# Altium integrated library NSC Logic Switch.IntLib: 48 symbols
Pins are listed as number, name and electrical type; pins without a type are passive.

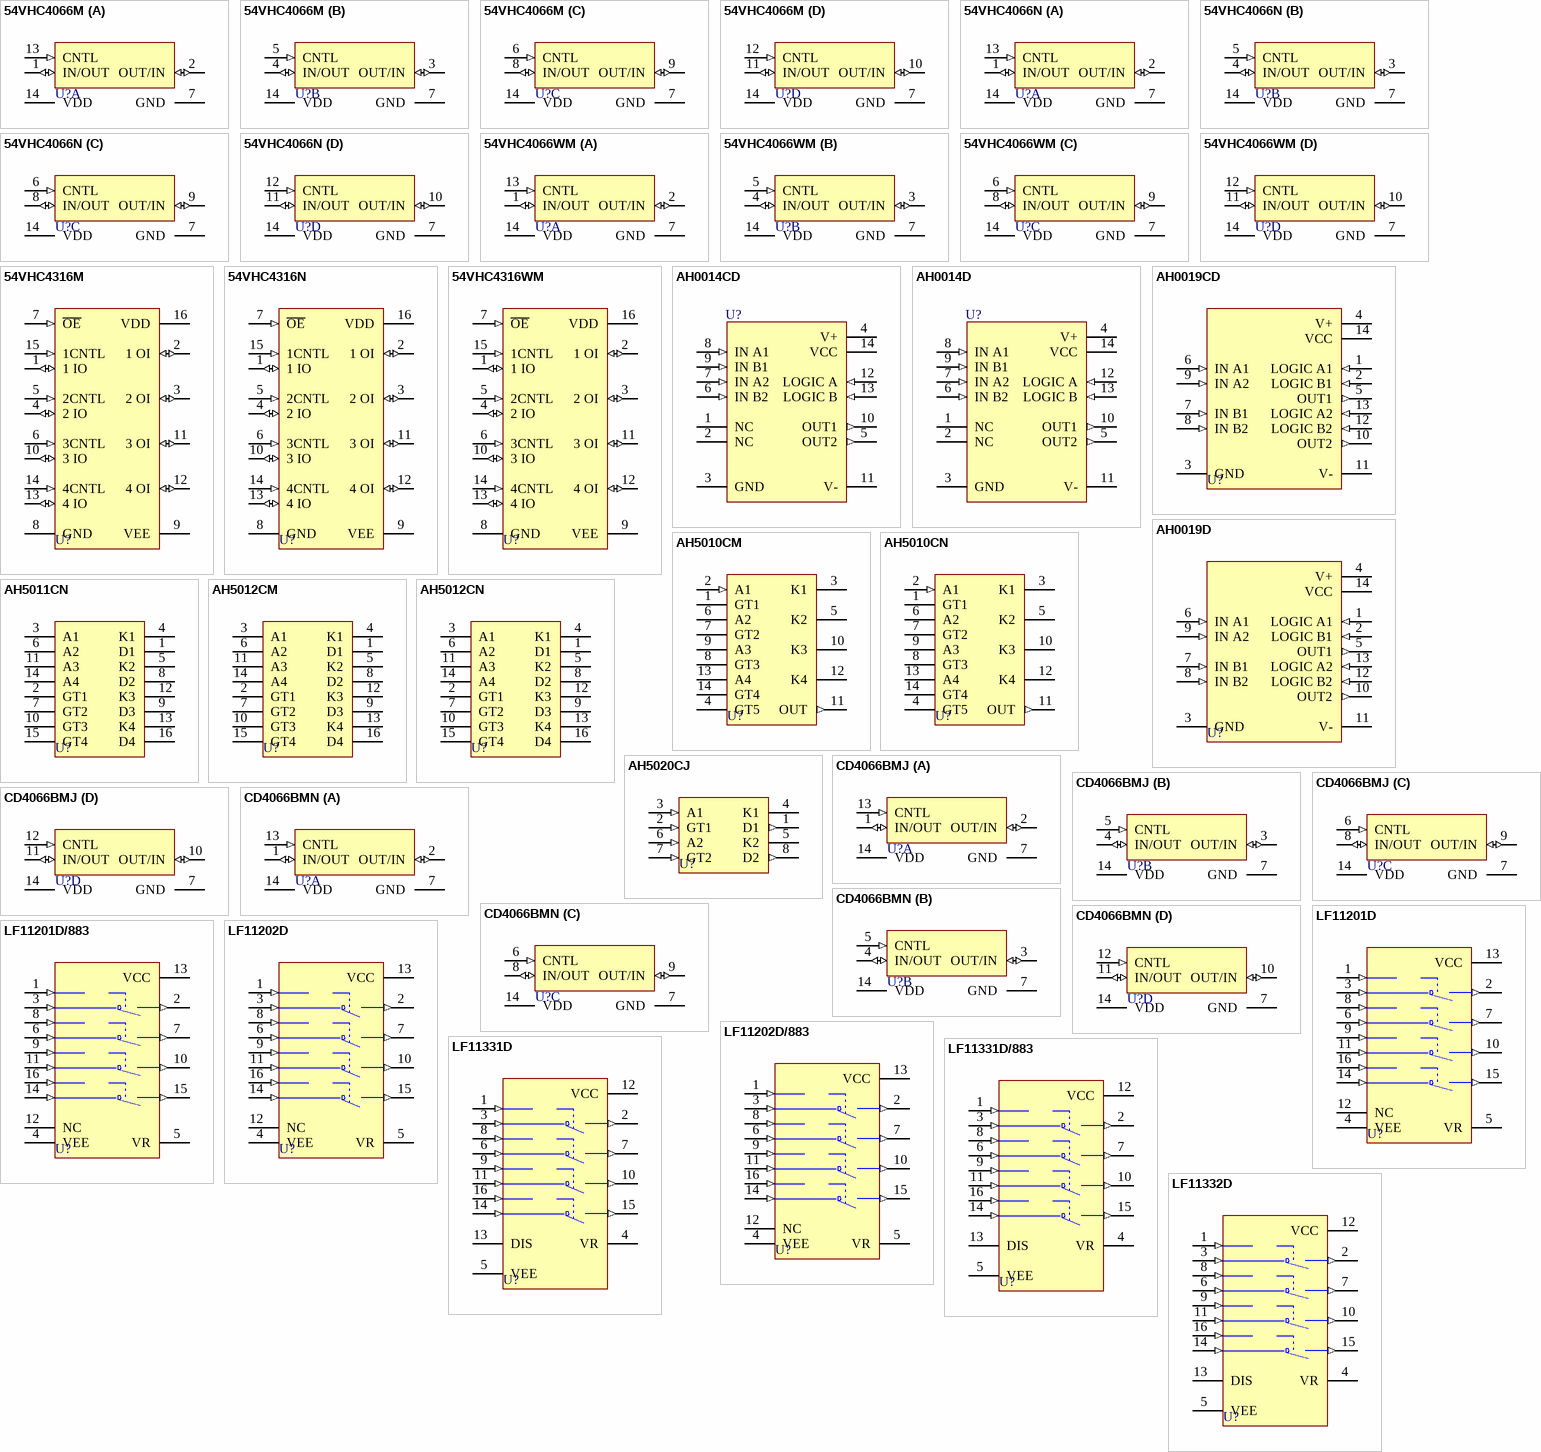
[diagram p0: symbols 54VHC4066M to LF11332D]

## 54VHC4066M
designator U?
Quad Analog Switch; Published: 15-Apr-2002; LatestRevisionDate: 13-Apr-2006; LatestRevisionNote: IPC-7351 Footprint Added.; DatasheetVersion: May-1994; PackageVersion: 2000; PackageReference: M14A; Publisher: Altium Limited; PackageDescription: 14-Pin Small Outline Integrated Circuit 1.27 mm Pitch; Code_IPC: SOIC127P600-14; ComponentLink1Description: Manufacturer Link; ComponentLink1URL: http://www.national.com/
footprint M14A_N (SOIC, 14-Leads, Body 8.6x3.9mm, Pitch 1.27mm, IPC Medium Density)
footprint M14A_L (SOIC, 14-Leads, Body 8.6x3.9mm, Pitch 1.27mm, IPC High Density)
footprint M14A_M (SOIC, 14-Leads, Body 8.6x3.9mm, Pitch 1.27mm, IPC Low Density)
3D model M14A (14-Pin Small Outline Integrated Circuit 1.27 mm Pitch)
pins on every part: 7 GND (power) hidden to GND, 14 VDD (power) hidden to VDD
part A pins: 1 IN/OUT (io), 2 OUT/IN (io), 13 CNTL (in)
part B pins: 3 OUT/IN (io), 4 IN/OUT (io), 5 CNTL (in)
part C pins: 6 CNTL (in), 8 IN/OUT (io), 9 OUT/IN (io)
part D pins: 10 OUT/IN (io), 11 IN/OUT (io), 12 CNTL (in)

## 54VHC4066N
designator U?
Quad Analog Switch; Published: 15-Apr-2002; LatestRevisionDate: 06-Jun-2005; LatestRevisionNote: Stylized 3D Model Added.; DatasheetVersion: May-1994; PackageVersion: 2000; PackageReference: N14A; Publisher: Altium Limited; PackageDescription: DIP; 14 Leads; Row Spacing 7.62 mm; Pitch 2.54 mm; ComponentLink1Description: Manufacturer Link; ComponentLink1URL: http://www.national.com/
footprint N14A (DIP; 14 Leads; Row Spacing 7.62 mm; Pitch 2.54 mm)
3D model N14A (DIP; 14 Leads; Row Spacing 7.62 mm; Pitch 2.54 mm)
pins on every part: 7 GND (power) hidden to GND, 14 VDD (power) hidden to VDD
part A pins: 1 IN/OUT (io), 2 OUT/IN (io), 13 CNTL (in)
part B pins: 3 OUT/IN (io), 4 IN/OUT (io), 5 CNTL (in)
part C pins: 6 CNTL (in), 8 IN/OUT (io), 9 OUT/IN (io)
part D pins: 10 OUT/IN (io), 11 IN/OUT (io), 12 CNTL (in)

## 54VHC4066WM
designator U?
Quad Analog Switch; Published: 15-Apr-2002; LatestRevisionDate: 13-Apr-2006; LatestRevisionNote: IPC-7351 Footprint Added.; DatasheetVersion: May-1994; PackageVersion: 2000; PackageReference: M14B; Publisher: Altium Limited; PackageDescription: 14-Pin Small Outline Integrated Circuit 1.27 mm Pitch; Code_JEDEC: MS-013-AF; Code_IPC: SOIC127P1030-14; ComponentLink1Description: Manufacturer Link; ComponentLink1URL: http://www.national.com/
footprint M14B_N (SOIC, 14-Leads, Body 9x7.5mm, Pitch 1.27mm, IPC Medium Density)
footprint M14B_L (SOIC, 14-Leads, Body 9x7.5mm, Pitch 1.27mm, IPC High Density)
footprint M14B_M (SOIC, 14-Leads, Body 9x7.5mm, Pitch 1.27mm, IPC Low Density)
3D model M14B (14-Pin Small Outline Integrated Circuit 1.27 mm Pitch)
pins on every part: 7 GND (power) hidden to GND, 14 VDD (power) hidden to VDD
part A pins: 1 IN/OUT (io), 2 OUT/IN (io), 13 CNTL (in)
part B pins: 3 OUT/IN (io), 4 IN/OUT (io), 5 CNTL (in)
part C pins: 6 CNTL (in), 8 IN/OUT (io), 9 OUT/IN (io)
part D pins: 10 OUT/IN (io), 11 IN/OUT (io), 12 CNTL (in)

## 54VHC4316M
designator U?
Quad Analog Switch with Level Translator; Published: 15-Apr-2002; LatestRevisionDate: 13-Apr-2006; LatestRevisionNote: IPC-7351 Footprint Added.; DatasheetVersion: Jun-1994; PackageVersion: 2000; PackageReference: M16A; Publisher: Altium Limited; PackageDescription: 16-Pin Small Outline Integrated Circuit 1.27 mm Pitch; Code_IPC: SOIC127P600-16; ComponentLink1Description: Manufacturer Link; ComponentLink1URL: http://www.national.com/
footprint M16A_N (SOIC, 16-Leads, Body 9.9x3.9mm, Pitch 1.27mm, IPC Medium Density)
footprint M16A_L (SOIC, 16-Leads, Body 9.9x3.9mm, Pitch 1.27mm, IPC High Density)
footprint M16A_M (SOIC, 16-Leads, Body 9.9x3.9mm, Pitch 1.27mm, IPC Low Density)
3D model M16A (16-Pin Small Outline Integrated Circuit 1.27 mm Pitch)
pins: 1 1 IO (io), 2 1 OI (io), 3 2 OI (io), 4 2 IO (io), 5 2CNTL (in), 6 3CNTL (in), 7 ~{OE} (in), 8 GND (power), 9 VEE (power), 10 3 IO (io), 11 3 OI (io), 12 4 OI (io), 13 4 IO (io), 14 4CNTL (in), 15 1CNTL (in), 16 VDD (power)

## 54VHC4316N
designator U?
Quad Analog Switch with Level Translator; Published: 15-Apr-2002; LatestRevisionDate: 06-Jun-2005; LatestRevisionNote: Stylized 3D Model Added.; DatasheetVersion: Jun-1994; PackageVersion: 2000; PackageReference: N16E; Publisher: Altium Limited; PackageDescription: DIP; 16 Leads; Row Spacing 7.62 mm; Pitch 2.54 mm; ComponentLink1Description: Manufacturer Link; ComponentLink1URL: http://www.national.com/
footprint N16E (DIP; 16 Leads; Row Spacing 7.62 mm; Pitch 2.54 mm)
3D model D16C (DIP; 16 Leads; Row Spacing 7.62 mm; Pitch 2.54 mm)
pins: 1 1 IO (io), 2 1 OI (io), 3 2 OI (io), 4 2 IO (io), 5 2CNTL (in), 6 3CNTL (in), 7 ~{OE} (in), 8 GND (power), 9 VEE (power), 10 3 IO (io), 11 3 OI (io), 12 4 OI (io), 13 4 IO (io), 14 4CNTL (in), 15 1CNTL (in), 16 VDD (power)

## 54VHC4316WM
designator U?
Quad Analog Switch with Level Translator; Published: 15-Apr-2002; LatestRevisionDate: 13-Apr-2006; LatestRevisionNote: IPC-7351 Footprint Added.; DatasheetVersion: Jun-1994; PackageVersion: 2000; PackageReference: M16B; Publisher: Altium Limited; PackageDescription: 16-Pin Small Outline Integrated Circuit 1.27 mm Pitch; Code_JEDEC: MS-013-AA; Code_IPC: SOIC127P1030-16; ComponentLink1Description: Manufacturer Link; ComponentLink1URL: http://www.national.com/
footprint M16B_N (SOIC, 16-Leads, Body 10.3x7.5mm, Pitch 1.27mm, IPC Medium Density)
footprint M16B_L (SOIC, 16-Leads, Body 10.3x7.5mm, Pitch 1.27mm, IPC High Density)
footprint M16B_M (SOIC, 16-Leads, Body 10.3x7.5mm, Pitch 1.27mm, IPC Low Density)
3D model M16B (16-Pin Small Outline Integrated Circuit 1.27 mm Pitch)
pins: 1 1 IO (io), 2 1 OI (io), 3 2 OI (io), 4 2 IO (io), 5 2CNTL (in), 6 3CNTL (in), 7 ~{OE} (in), 8 GND (power), 9 VEE (power), 10 3 IO (io), 11 3 OI (io), 12 4 OI (io), 13 4 IO (io), 14 4CNTL (in), 15 1CNTL (in), 16 VDD (power)

## AH0014CD
designator U?
Quad SPST-TTL/DTL Compatible MOS Analog Switches; Published: 15-Apr-2002; LatestRevisionDate: 06-Jun-2005; LatestRevisionNote: Stylized 3D Model Added.; DatasheetVersion: Feb-1995; PackageReference: D14D; Publisher: Altium Limited; PackageDescription: DIP; 14 Leads; Row Spacing 7.62 mm; Pitch 2.54 mm; ComponentLink1Description: Manufacturer Link; ComponentLink1URL: http://www.national.com/
footprint D14D (DIP; 14 Leads; Row Spacing 7.62 mm; Pitch 2.54 mm)
3D model D14D (DIP; 14 Leads; Row Spacing 7.62 mm; Pitch 2.54 mm)
pins: 1 NC, 2 NC, 3 GND (power), 4 V+ (power), 5 OUT2 (out), 6 IN B2 (in), 7 IN A2 (in), 8 IN A1 (in), 9 IN B1 (in), 10 OUT1 (out), 11 V- (power), 12 LOGIC A (in), 13 LOGIC B (in), 14 VCC (power)

## AH0014D
designator U?
Quad SPST-TTL/DTL Compatible MOS Analog Switches; Published: 15-Apr-2002; LatestRevisionDate: 06-Jun-2005; LatestRevisionNote: Stylized 3D Model Added.; DatasheetVersion: Feb-1995; PackageReference: D14D; Publisher: Altium Limited; PackageDescription: DIP; 14 Leads; Row Spacing 7.62 mm; Pitch 2.54 mm; ComponentLink1Description: Manufacturer Link; ComponentLink1URL: http://www.national.com/
footprint D14D (DIP; 14 Leads; Row Spacing 7.62 mm; Pitch 2.54 mm)
3D model D14D (DIP; 14 Leads; Row Spacing 7.62 mm; Pitch 2.54 mm)
pins: 1 NC, 2 NC, 3 GND (power), 4 V+ (power), 5 OUT2 (out), 6 IN B2 (in), 7 IN A2 (in), 8 IN A1 (in), 9 IN B1 (in), 10 OUT1 (out), 11 V- (power), 12 LOGIC A (in), 13 LOGIC B (in), 14 VCC (power)

## AH0019CD
designator U?
Dual DPST-TTL/DTL Compatible MOS Analog Switches; Published: 15-Apr-2002; LatestRevisionDate: 06-Jun-2005; LatestRevisionNote: Stylized 3D Model Added.; DatasheetVersion: Feb-1995; PackageReference: D14D; Publisher: Altium Limited; PackageDescription: DIP; 14 Leads; Row Spacing 7.62 mm; Pitch 2.54 mm; ComponentLink1Description: Manufacturer Link; ComponentLink1URL: http://www.national.com/
footprint D14D (DIP; 14 Leads; Row Spacing 7.62 mm; Pitch 2.54 mm)
3D model D14D (DIP; 14 Leads; Row Spacing 7.62 mm; Pitch 2.54 mm)
pins: 1 LOGIC A1 (in), 2 LOGIC B1 (in), 3 GND (power), 4 V+ (power), 5 OUT1 (out), 6 IN A1 (in), 7 IN B1 (in), 8 IN B2 (in), 9 IN A2 (in), 10 OUT2 (out), 11 V- (power), 12 LOGIC B2 (in), 13 LOGIC A2 (in), 14 VCC (power)

## AH0019D
designator U?
Dual DPST-TTL/DTL Compatible MOS Analog Switches; Published: 15-Apr-2002; LatestRevisionDate: 06-Jun-2005; LatestRevisionNote: Stylized 3D Model Added.; DatasheetVersion: Feb-1995; PackageReference: D14D; Publisher: Altium Limited; PackageDescription: DIP; 14 Leads; Row Spacing 7.62 mm; Pitch 2.54 mm; ComponentLink1Description: Manufacturer Link; ComponentLink1URL: http://www.national.com/
footprint D14D (DIP; 14 Leads; Row Spacing 7.62 mm; Pitch 2.54 mm)
3D model D14D (DIP; 14 Leads; Row Spacing 7.62 mm; Pitch 2.54 mm)
pins: 1 LOGIC A1 (in), 2 LOGIC B1 (in), 3 GND (power), 4 V+ (power), 5 OUT1 (out), 6 IN A1 (in), 7 IN B1 (in), 8 IN B2 (in), 9 IN A2 (in), 10 OUT2 (out), 11 V- (power), 12 LOGIC B2 (in), 13 LOGIC A2 (in), 14 VCC (power)

## AH5010CM
designator U?
Monolothic Analog Current Switches; Note: All diode cathodes are internally connected to the substrate.; Published: 15-Apr-2002; LatestRevisionDate: 13-Apr-2006; LatestRevisionNote: IPC-7351 Footprint Added.; DatasheetVersion: Jan-1995; PackageVersion: 2000; PackageReference: M14A; Publisher: Altium Limited; PackageDescription: 14-Pin Small Outline Integrated Circuit 1.27 mm Pitch; Code_IPC: SOIC127P600-14; ComponentLink1Description: Manufacturer Link; ComponentLink1URL: http://www.national.com/; ComponentLink2Description: Datasheet; ComponentLink2URL: http://www.national.com/ds.cgi/AH/AH5010.pdf; ComponentLink3Description: URL Link1; ComponentLink3URL: http://www.national.com/pf/AH/AH5010.html
footprint M14A_N (SOIC, 14-Leads, Body 8.6x3.9mm, Pitch 1.27mm, IPC Medium Density)
footprint M14A_L (SOIC, 14-Leads, Body 8.6x3.9mm, Pitch 1.27mm, IPC High Density)
footprint M14A_M (SOIC, 14-Leads, Body 8.6x3.9mm, Pitch 1.27mm, IPC Low Density)
3D model M14A (14-Pin Small Outline Integrated Circuit 1.27 mm Pitch)
pins: 1 GT1, 2 A1 (in), 3 K1, 4 GT5, 5 K2, 6 A2, 7 GT2, 8 GT3, 9 A3, 10 K3, 11 OUT (out), 12 K4, 13 A4, 14 GT4

## AH5010CN
designator U?
Monolothic Analog Current Switches; Note: All diode cathodes are internally connected to the substrate.; ComponentAvailability: Obsolete; Published: 15-Apr-2002; LatestRevisionDate: 06-Jun-2005; LatestRevisionNote: Stylized 3D Model Added.; DatasheetVersion: Jan-1995; PackageVersion: 2000; PackageReference: N14A; Publisher: Altium Limited; PackageDescription: DIP; 14 Leads; Row Spacing 7.62 mm; Pitch 2.54 mm; ComponentLink1Description: Manufacturer Link; ComponentLink1URL: http://www.national.com/; ComponentLink2Description: Datasheet; ComponentLink2URL: http://www.national.com/ds.cgi/AH/AH5010.pdf; ComponentLink3Description: Discontinuation Notice; ComponentLink3URL: http://www.national.com/obs/obsolescence.txt; ComponentLink4Description: URL Link1; ComponentLink4URL: http://www.national.com/pf/AH/AH5010.html
footprint N14A (DIP; 14 Leads; Row Spacing 7.62 mm; Pitch 2.54 mm)
3D model N14A (DIP; 14 Leads; Row Spacing 7.62 mm; Pitch 2.54 mm)
pins: 1 GT1, 2 A1 (in), 3 K1, 4 GT5, 5 K2, 6 A2, 7 GT2, 8 GT3, 9 A3, 10 K3, 11 OUT (out), 12 K4, 13 A4, 14 GT4

## AH5011CN
designator U?
Monolothic Analog Current Switches; Note: All diode cathodes are internally connected to the substrate.; ComponentAvailability: Obsolete; Published: 15-Apr-2002; LatestRevisionDate: 06-Jun-2005; LatestRevisionNote: Stylized 3D Model Added.; DatasheetVersion: Jan-1995; PackageVersion: 2000; PackageReference: N16A; Publisher: Altium Limited; PackageDescription: DIP; 16 Leads; Row Spacing 7.62 mm; Pitch 2.54 mm; ComponentLink1Description: Manufacturer Link; ComponentLink1URL: http://www.national.com/; ComponentLink2Description: Datasheet; ComponentLink2URL: http://www.national.com/ds.cgi/AH/AH5010.pdf; ComponentLink3Description: Discontinuation Notice; ComponentLink3URL: http://www.national.com/obs/obsolescence.txt; ComponentLink4Description: URL Link1; ComponentLink4URL: http://www.national.com/pf/AH/AH5011.html
footprint N16A (DIP; 16 Leads; Row Spacing 7.62 mm; Pitch 2.54 mm)
3D model N16A (DIP; 16 Leads; Row Spacing 7.62 mm; Pitch 2.54 mm)
pins: 1 D1, 2 GT1, 3 A1, 4 K1, 5 K2, 6 A2, 7 GT2, 8 D2, 9 D3, 10 GT3, 11 A3, 12 K3, 13 K4, 14 A4, 15 GT4, 16 D4

## AH5012CM
designator U?
Monolothic Analog Current Switches; Note: All diode cathodes are internally connected to the substrate.; ComponentAvailability: Obsolete; Published: 15-Apr-2002; LatestRevisionDate: 13-Apr-2006; LatestRevisionNote: IPC-7351 Footprint Added.; DatasheetVersion: Jan-1995; PackageVersion: 2000; PackageReference: M16A; Publisher: Altium Limited; PackageDescription: 16-Pin Small Outline Integrated Circuit 1.27 mm Pitch; Code_IPC: SOIC127P600-16; ComponentLink1Description: Manufacturer Link; ComponentLink1URL: http://www.national.com/; ComponentLink2Description: Datasheet; ComponentLink2URL: http://www.national.com/ds.cgi/AH/AH5010.pdf; ComponentLink3Description: Discontinuation Notice; ComponentLink3URL: http://www.national.com/obs/obsolescence.txt; ComponentLink4Description: URL Link1; ComponentLink4URL: http://www.national.com/pf/AH/AH5012.html
footprint M16A_N (SOIC, 16-Leads, Body 9.9x3.9mm, Pitch 1.27mm, IPC Medium Density)
footprint M16A_L (SOIC, 16-Leads, Body 9.9x3.9mm, Pitch 1.27mm, IPC High Density)
footprint M16A_M (SOIC, 16-Leads, Body 9.9x3.9mm, Pitch 1.27mm, IPC Low Density)
3D model M16A (16-Pin Small Outline Integrated Circuit 1.27 mm Pitch)
pins: 1 D1, 2 GT1, 3 A1, 4 K1, 5 K2, 6 A2, 7 GT2, 8 D2, 9 D3, 10 GT3, 11 A3, 12 K3, 13 K4, 14 A4, 15 GT4, 16 D4

## AH5012CN
designator U?
Monolothic Analog Current Switches; Note: All diode cathodes are internally connected to the substrate.; ComponentAvailability: Obsolete; Published: 15-Apr-2002; LatestRevisionDate: 06-Jun-2005; LatestRevisionNote: Stylized 3D Model Added.; DatasheetVersion: Jan-1995; PackageVersion: 2000; PackageReference: N16A; Publisher: Altium Limited; PackageDescription: DIP; 16 Leads; Row Spacing 7.62 mm; Pitch 2.54 mm; ComponentLink1Description: Manufacturer Link; ComponentLink1URL: http://www.national.com/; ComponentLink2Description: Datasheet; ComponentLink2URL: http://www.national.com/ds.cgi/AH/AH5010.pdf; ComponentLink3Description: Discontinuation Notice; ComponentLink3URL: http://www.national.com/obs/obsolescence.txt; ComponentLink4Description: URL Link1; ComponentLink4URL: http://www.national.com/pf/AH/AH5012.html
footprint N16A (DIP; 16 Leads; Row Spacing 7.62 mm; Pitch 2.54 mm)
3D model N16A (DIP; 16 Leads; Row Spacing 7.62 mm; Pitch 2.54 mm)
pins: 1 D1, 2 GT1, 3 A1, 4 K1, 5 K2, 6 A2, 7 GT2, 8 D2, 9 D3, 10 GT3, 11 A3, 12 K3, 13 K4, 14 A4, 15 GT4, 16 D4

## AH5020CJ
designator U?
Monolothic Analog Current Switch; Note: All diode cathodes are internally connected to the substrate.; ComponentAvailability: Obsolete; Published: 15-Apr-2002; LatestRevisionDate: 06-Jun-2005; LatestRevisionNote: Stylized 3D Model Added.; DatasheetVersion: Jul-1987; PackageVersion: 2000; PackageReference: J08A; Publisher: Altium Limited; PackageDescription: DIP; 8 Leads; Row Spacing 7.62 mm; Pitch 2.54 mm; ComponentLink1Description: Manufacturer Link; ComponentLink1URL: http://www.national.com/; ComponentLink2Description: Datasheet; ComponentLink2URL: http://www.national.com/ds.cgi/AH/AH5020C.pdf; ComponentLink3Description: Discontinuation Notice; ComponentLink3URL: http://www.national.com/obs/obsolescence.txt; ComponentLink4Description: URL Link1; ComponentLink4URL: http://www.national.com/pf/AH/AH5020C.html
footprint J08A (DIP; 8 Leads; Row Spacing 7.62 mm; Pitch 2.54 mm)
3D model J08A (DIP; 8 Leads; Row Spacing 7.62 mm; Pitch 2.54 mm)
pins: 1 D1 (out), 2 GT1 (in), 3 A1 (in), 4 K1 (power), 5 K2 (power), 6 A2 (in), 7 GT2 (in), 8 D2 (out)

## CD4066BMJ
designator U?
Quad Bilateral Switch; Published: 15-Apr-2002; LatestRevisionDate: 06-Jun-2005; LatestRevisionNote: Stylized 3D Model Added.; DatasheetVersion: Jun-1992; PackageVersion: 2000; PackageReference: J14A; Publisher: Altium Limited; PackageDescription: DIP; 14 Leads; Row Spacing 7.62 mm; Pitch 2.54 mm; ComponentLink1Description: Manufacturer Link; ComponentLink1URL: http://www.national.com/; ComponentLink2Description: Datasheet; ComponentLink2URL: http://www.national.com/ds.cgi/CD/CD4066BC.pdf; ComponentLink3Description: URL Link1; ComponentLink3URL: http://www.national.com/pf/CD/CD4066BM.html
footprint J14A (DIP; 14 Leads; Row Spacing 7.62 mm; Pitch 2.54 mm)
3D model J14A (DIP; 14 Leads; Row Spacing 7.62 mm; Pitch 2.54 mm)
pins on every part: 7 GND (power) hidden to GND, 14 VDD (power) hidden to VDD
part A pins: 1 IN/OUT (io), 2 OUT/IN (io), 13 CNTL (in)
part B pins: 3 OUT/IN (io), 4 IN/OUT (io), 5 CNTL (in)
part C pins: 6 CNTL (in), 8 IN/OUT (io), 9 OUT/IN (io)
part D pins: 10 OUT/IN (io), 11 IN/OUT (io), 12 CNTL (in)

## CD4066BMN
designator U?
Quad Bilateral Switch; Published: 15-Apr-2002; LatestRevisionDate: 06-Jun-2005; LatestRevisionNote: Stylized 3D Model Added.; DatasheetVersion: Jun-1992; PackageVersion: 2000; PackageReference: N14A; Publisher: Altium Limited; PackageDescription: DIP; 14 Leads; Row Spacing 7.62 mm; Pitch 2.54 mm; ComponentLink1Description: Manufacturer Link; ComponentLink1URL: http://www.national.com/; ComponentLink2Description: Datasheet; ComponentLink2URL: http://www.national.com/ds.cgi/CD/CD4066BC.pdf; ComponentLink3Description: URL Link1; ComponentLink3URL: http://www.national.com/pf/CD/CD4066BM.html
footprint N14A (DIP; 14 Leads; Row Spacing 7.62 mm; Pitch 2.54 mm)
3D model N14A (DIP; 14 Leads; Row Spacing 7.62 mm; Pitch 2.54 mm)
pins on every part: 7 GND (power) hidden to GND, 14 VDD (power) hidden to VDD
part A pins: 1 IN/OUT (io), 2 OUT/IN (io), 13 CNTL (in)
part B pins: 3 OUT/IN (io), 4 IN/OUT (io), 5 CNTL (in)
part C pins: 6 CNTL (in), 8 IN/OUT (io), 9 OUT/IN (io)
part D pins: 10 OUT/IN (io), 11 IN/OUT (io), 12 CNTL (in)

## LF11201D
designator U?
Quad SPST JFET Analog Switches; Published: 15-Apr-2002; LatestRevisionDate: 06-Jun-2005; LatestRevisionNote: Stylized 3D Model Added.; DatasheetVersion: Jan-1995; PackageVersion: 2000; PackageReference: D16C; Publisher: Altium Limited; PackageDescription: DIP; 16 Leads; Row Spacing 7.62 mm; Pitch 2.54 mm; ComponentLink1Description: Manufacturer Link; ComponentLink1URL: http://www.national.com/
footprint D16C (DIP; 16 Leads; Row Spacing 7.62 mm; Pitch 2.54 mm)
3D model D16C (DIP; 16 Leads; Row Spacing 7.62 mm; Pitch 2.54 mm)
pins: 1 IN1 (in), 2 D1 (out), 3 S1 (in), 4 VEE (power), 5 VR, 6 S2 (in), 7 D2 (out), 8 IN2 (in), 9 IN3 (in), 10 D3 (out), 11 S3 (in), 12 NC, 13 VCC (power), 14 S4 (in), 15 D4 (out), 16 IN4 (in)

## LF11201D/883
designator U?
Quad SPST JFET Analog Switches; Published: 15-Apr-2002; LatestRevisionDate: 06-Jun-2005; LatestRevisionNote: Stylized 3D Model Added.; DatasheetVersion: Jan-1995; PackageVersion: 2000; PackageReference: D16C; Publisher: Altium Limited; PackageDescription: DIP; 16 Leads; Row Spacing 7.62 mm; Pitch 2.54 mm; ComponentLink1Description: Manufacturer Link; ComponentLink1URL: http://www.national.com/
footprint D16C (DIP; 16 Leads; Row Spacing 7.62 mm; Pitch 2.54 mm)
3D model D16C (DIP; 16 Leads; Row Spacing 7.62 mm; Pitch 2.54 mm)
pins: 1 IN1 (in), 2 D1 (out), 3 S1 (in), 4 VEE (power), 5 VR, 6 S2 (in), 7 D2 (out), 8 IN2 (in), 9 IN3 (in), 10 D3 (out), 11 S3 (in), 12 NC, 13 VCC (power), 14 S4 (in), 15 D4 (out), 16 IN4 (in)

## LF11202D
designator U?
Quad SPST JFET Analog Switches; Published: 15-Apr-2002; LatestRevisionDate: 06-Jun-2005; LatestRevisionNote: Stylized 3D Model Added.; DatasheetVersion: Jan-1995; PackageVersion: 2000; PackageReference: D16C; Publisher: Altium Limited; PackageDescription: DIP; 16 Leads; Row Spacing 7.62 mm; Pitch 2.54 mm; ComponentLink1Description: Manufacturer Link; ComponentLink1URL: http://www.national.com/
footprint D16C (DIP; 16 Leads; Row Spacing 7.62 mm; Pitch 2.54 mm)
3D model D16C (DIP; 16 Leads; Row Spacing 7.62 mm; Pitch 2.54 mm)
pins: 1 IN1 (in), 2 D1 (out), 3 S1 (in), 4 VEE (power), 5 VR, 6 S2 (in), 7 D2 (out), 8 IN2 (in), 9 IN3 (in), 10 D3 (out), 11 S3 (in), 12 NC, 13 VCC (power), 14 S4 (in), 15 D4 (out), 16 IN4 (in)

## LF11202D/883
designator U?
Quad SPST JFET Analog Switches; Published: 15-Apr-2002; LatestRevisionDate: 06-Jun-2005; LatestRevisionNote: Stylized 3D Model Added.; DatasheetVersion: Jan-1995; PackageVersion: 2000; PackageReference: D16C; Publisher: Altium Limited; PackageDescription: DIP; 16 Leads; Row Spacing 7.62 mm; Pitch 2.54 mm; ComponentLink1Description: Manufacturer Link; ComponentLink1URL: http://www.national.com/
footprint D16C (DIP; 16 Leads; Row Spacing 7.62 mm; Pitch 2.54 mm)
3D model D16C (DIP; 16 Leads; Row Spacing 7.62 mm; Pitch 2.54 mm)
pins: 1 IN1 (in), 2 D1 (out), 3 S1 (in), 4 VEE (power), 5 VR, 6 S2 (in), 7 D2 (out), 8 IN2 (in), 9 IN3 (in), 10 D3 (out), 11 S3 (in), 12 NC, 13 VCC (power), 14 S4 (in), 15 D4 (out), 16 IN4 (in)

## LF11331D
designator U?
Quad SPST JFET Analog Switches; Published: 15-Apr-2002; LatestRevisionDate: 06-Jun-2005; LatestRevisionNote: Stylized 3D Model Added.; DatasheetVersion: Jan-1995; PackageVersion: 2000; PackageReference: D16C; Publisher: Altium Limited; PackageDescription: DIP; 16 Leads; Row Spacing 7.62 mm; Pitch 2.54 mm; ComponentLink1Description: Manufacturer Link; ComponentLink1URL: http://www.national.com/
footprint D16C (DIP; 16 Leads; Row Spacing 7.62 mm; Pitch 2.54 mm)
3D model D16C (DIP; 16 Leads; Row Spacing 7.62 mm; Pitch 2.54 mm)
pins: 1 IN1 (in), 2 D1 (out), 3 S1 (in), 4 VR, 5 VEE (power), 6 S2 (in), 7 D2 (out), 8 IN2 (in), 9 IN3 (in), 10 D3 (out), 11 S3 (in), 12 VCC (power), 13 DIS, 14 S4 (in), 15 D4 (out), 16 IN4 (in)

## LF11331D/883
designator U?
Quad SPST JFET Analog Switches; Published: 15-Apr-2002; LatestRevisionDate: 06-Jun-2005; LatestRevisionNote: Stylized 3D Model Added.; DatasheetVersion: Jan-1995; PackageVersion: 2000; PackageReference: D16C; Publisher: Altium Limited; PackageDescription: DIP; 16 Leads; Row Spacing 7.62 mm; Pitch 2.54 mm; ComponentLink1Description: Manufacturer Link; ComponentLink1URL: http://www.national.com/
footprint D16C (DIP; 16 Leads; Row Spacing 7.62 mm; Pitch 2.54 mm)
3D model D16C (DIP; 16 Leads; Row Spacing 7.62 mm; Pitch 2.54 mm)
pins: 1 IN1 (in), 2 D1 (out), 3 S1 (in), 4 VR, 5 VEE (power), 6 S2 (in), 7 D2 (out), 8 IN2 (in), 9 IN3 (in), 10 D3 (out), 11 S3 (in), 12 VCC (power), 13 DIS, 14 S4 (in), 15 D4 (out), 16 IN4 (in)

## LF11332D
designator U?
Quad SPST JFET Analog Switches; Published: 15-Apr-2002; LatestRevisionDate: 06-Jun-2005; LatestRevisionNote: Stylized 3D Model Added.; DatasheetVersion: Jan-1995; PackageVersion: 2000; PackageReference: D16C; Publisher: Altium Limited; PackageDescription: DIP; 16 Leads; Row Spacing 7.62 mm; Pitch 2.54 mm; ComponentLink1Description: Manufacturer Link; ComponentLink1URL: http://www.national.com/
footprint D16C (DIP; 16 Leads; Row Spacing 7.62 mm; Pitch 2.54 mm)
3D model D16C (DIP; 16 Leads; Row Spacing 7.62 mm; Pitch 2.54 mm)
pins: 1 IN1 (in), 2 D1 (out), 3 S1 (in), 4 VR, 5 VEE (power), 6 S2 (in), 7 D2 (out), 8 IN2 (in), 9 IN3 (in), 10 D3 (out), 11 S3 (in), 12 VCC (power), 13 DIS, 14 S4 (in), 15 D4 (out), 16 IN4 (in)

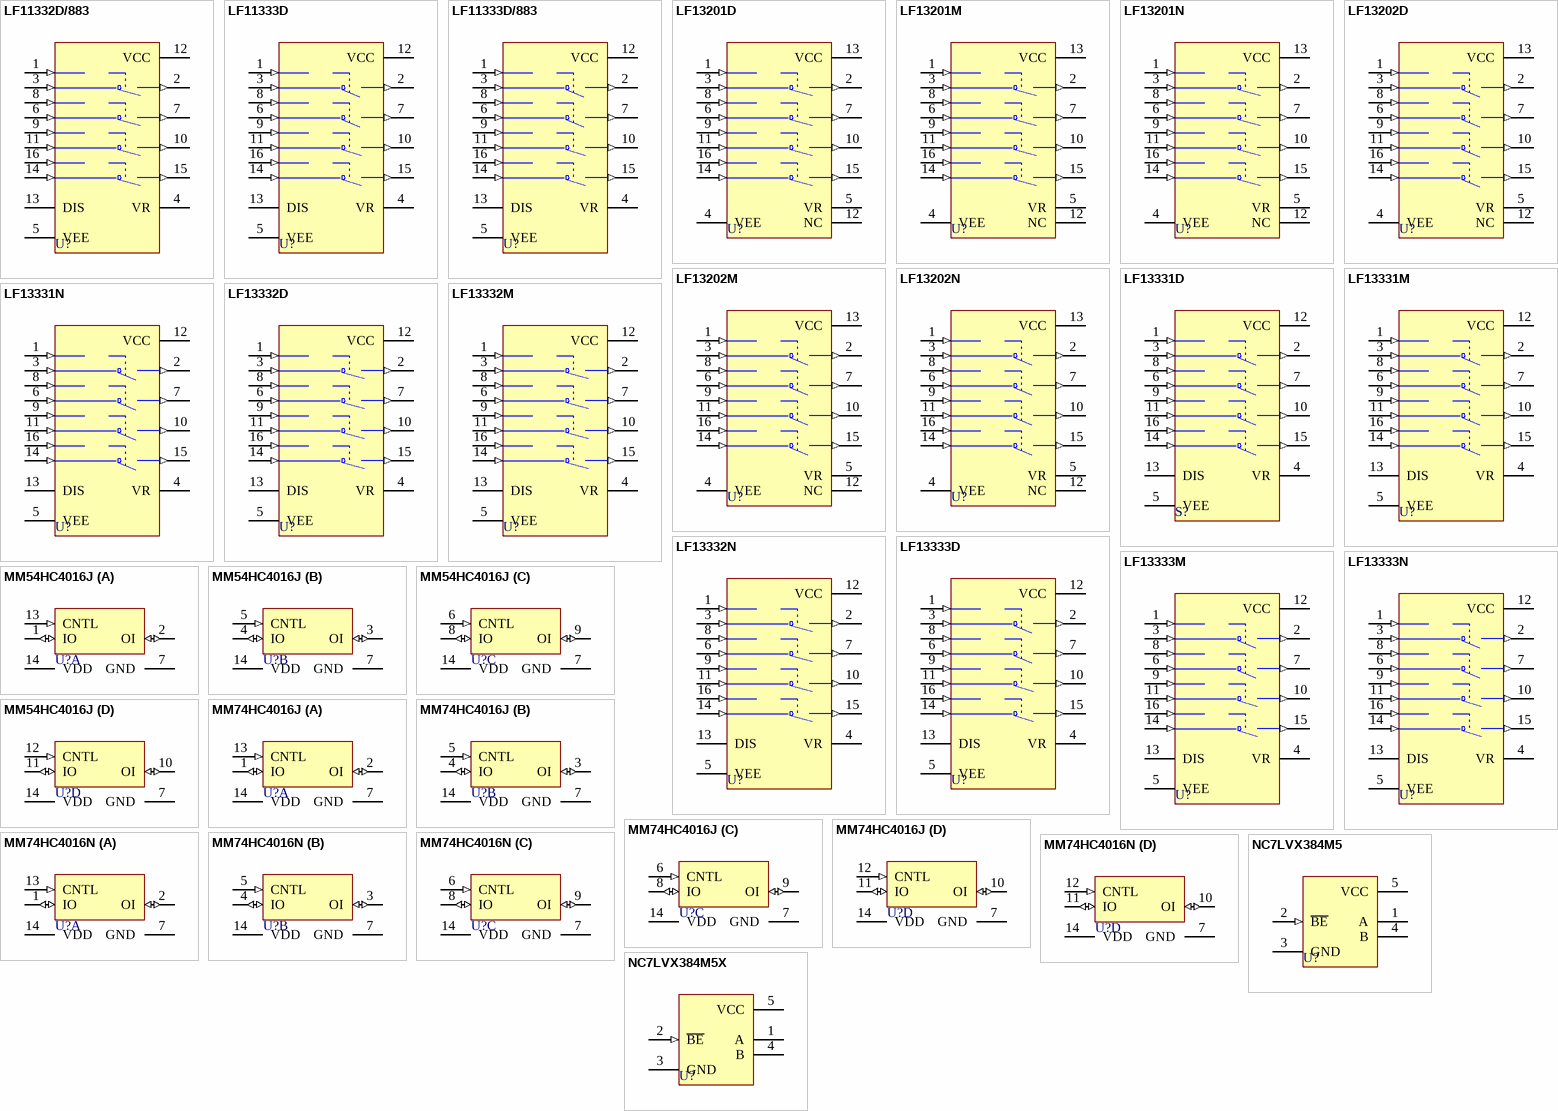
[diagram p1: symbols LF11332D/883 to NC7LVX384M5X]

## LF11332D/883
designator U?
Quad SPST JFET Analog Switches; Published: 15-Apr-2002; LatestRevisionDate: 06-Jun-2005; LatestRevisionNote: Stylized 3D Model Added.; DatasheetVersion: Jan-1995; PackageVersion: 2000; PackageReference: D16C; Publisher: Altium Limited; PackageDescription: DIP; 16 Leads; Row Spacing 7.62 mm; Pitch 2.54 mm; ComponentLink1Description: Manufacturer Link; ComponentLink1URL: http://www.national.com/
footprint D16C (DIP; 16 Leads; Row Spacing 7.62 mm; Pitch 2.54 mm)
3D model D16C (DIP; 16 Leads; Row Spacing 7.62 mm; Pitch 2.54 mm)
pins: 1 IN1 (in), 2 D1 (out), 3 S1 (in), 4 VR, 5 VEE (power), 6 S2 (in), 7 D2 (out), 8 IN2 (in), 9 IN3 (in), 10 D3 (out), 11 S3 (in), 12 VCC (power), 13 DIS, 14 S4 (in), 15 D4 (out), 16 IN4 (in)

## LF11333D
designator U?
Quad SPST JFET Analog Switches; Published: 15-Apr-2002; LatestRevisionDate: 06-Jun-2005; LatestRevisionNote: Stylized 3D Model Added.; DatasheetVersion: Jan-1995; PackageVersion: 2000; PackageReference: D16C; Publisher: Altium Limited; PackageDescription: DIP; 16 Leads; Row Spacing 7.62 mm; Pitch 2.54 mm; ComponentLink1Description: Manufacturer Link; ComponentLink1URL: http://www.national.com/
footprint D16C (DIP; 16 Leads; Row Spacing 7.62 mm; Pitch 2.54 mm)
3D model D16C (DIP; 16 Leads; Row Spacing 7.62 mm; Pitch 2.54 mm)
pins: 1 IN1 (in), 2 D1 (out), 3 S1 (in), 4 VR, 5 VEE (power), 6 S2 (in), 7 D2 (out), 8 IN2 (in), 9 IN3 (in), 10 D3 (out), 11 S3 (in), 12 VCC (power), 13 DIS, 14 S4 (in), 15 D4 (out), 16 IN4 (in)

## LF11333D/883
designator U?
Quad SPST JFET Analog Switches; Published: 15-Apr-2002; LatestRevisionDate: 06-Jun-2005; LatestRevisionNote: Stylized 3D Model Added.; DatasheetVersion: Jan-1995; PackageVersion: 2000; PackageReference: D16C; Publisher: Altium Limited; PackageDescription: DIP; 16 Leads; Row Spacing 7.62 mm; Pitch 2.54 mm; ComponentLink1Description: Manufacturer Link; ComponentLink1URL: http://www.national.com/
footprint D16C (DIP; 16 Leads; Row Spacing 7.62 mm; Pitch 2.54 mm)
3D model D16C (DIP; 16 Leads; Row Spacing 7.62 mm; Pitch 2.54 mm)
pins: 1 IN1 (in), 2 D1 (out), 3 S1 (in), 4 VR, 5 VEE (power), 6 S2 (in), 7 D2 (out), 8 IN2 (in), 9 IN3 (in), 10 D3 (out), 11 S3 (in), 12 VCC (power), 13 DIS, 14 S4 (in), 15 D4 (out), 16 IN4 (in)

## LF13201D
designator U?
Quad SPST JFET Analog Switches; Published: 15-Apr-2002; LatestRevisionDate: 06-Jun-2005; LatestRevisionNote: Stylized 3D Model Added.; DatasheetVersion: Jan-1995; PackageVersion: 2000; PackageReference: D16C; Publisher: Altium Limited; PackageDescription: DIP; 16 Leads; Row Spacing 7.62 mm; Pitch 2.54 mm; ComponentLink1Description: Manufacturer Link; ComponentLink1URL: http://www.national.com/
footprint D16C (DIP; 16 Leads; Row Spacing 7.62 mm; Pitch 2.54 mm)
3D model D16C (DIP; 16 Leads; Row Spacing 7.62 mm; Pitch 2.54 mm)
pins: 1 IN1 (in), 2 D1 (out), 3 S1 (in), 4 VEE (power), 5 VR, 6 S2 (in), 7 D2 (out), 8 IN2 (in), 9 IN3 (in), 10 D3 (out), 11 S3 (in), 12 NC, 13 VCC (power), 14 S4 (in), 15 D4 (out), 16 IN4 (in)

## LF13201M
designator U?
Quad SPST JFET Analog Switches; Published: 15-Apr-2002; LatestRevisionDate: 13-Apr-2006; LatestRevisionNote: IPC-7351 Footprint Added.; DatasheetVersion: Jan-1995; PackageVersion: 2000; PackageReference: M16A; Publisher: Altium Limited; PackageDescription: 16-Pin Small Outline Integrated Circuit 1.27 mm Pitch; Code_IPC: SOIC127P600-16; ComponentLink1Description: Manufacturer Link; ComponentLink1URL: http://www.national.com/
footprint M16A_N (SOIC, 16-Leads, Body 9.9x3.9mm, Pitch 1.27mm, IPC Medium Density)
footprint M16A_L (SOIC, 16-Leads, Body 9.9x3.9mm, Pitch 1.27mm, IPC High Density)
footprint M16A_M (SOIC, 16-Leads, Body 9.9x3.9mm, Pitch 1.27mm, IPC Low Density)
3D model M16A (16-Pin Small Outline Integrated Circuit 1.27 mm Pitch)
pins: 1 IN1 (in), 2 D1 (out), 3 S1 (in), 4 VEE (power), 5 VR, 6 S2 (in), 7 D2 (out), 8 IN2 (in), 9 IN3 (in), 10 D3 (out), 11 S3 (in), 12 NC, 13 VCC (power), 14 S4 (in), 15 D4 (out), 16 IN4 (in)

## LF13201N
designator U?
Quad SPST JFET Analog Switches; Published: 15-Apr-2002; LatestRevisionDate: 06-Jun-2005; LatestRevisionNote: Stylized 3D Model Added.; DatasheetVersion: Jan-1995; PackageVersion: 2000; PackageReference: N16A; Publisher: Altium Limited; PackageDescription: DIP; 16 Leads; Row Spacing 7.62 mm; Pitch 2.54 mm; ComponentLink1Description: Manufacturer Link; ComponentLink1URL: http://www.national.com/
footprint N16A (DIP; 16 Leads; Row Spacing 7.62 mm; Pitch 2.54 mm)
3D model N16A (DIP; 16 Leads; Row Spacing 7.62 mm; Pitch 2.54 mm)
pins: 1 IN1 (in), 2 D1 (out), 3 S1 (in), 4 VEE (power), 5 VR, 6 S2 (in), 7 D2 (out), 8 IN2 (in), 9 IN3 (in), 10 D3 (out), 11 S3 (in), 12 NC, 13 VCC (power), 14 S4 (in), 15 D4 (out), 16 IN4 (in)

## LF13202D
designator U?
Quad SPST JFET Analog Switches; Published: 15-Apr-2002; LatestRevisionDate: 06-Jun-2005; LatestRevisionNote: Stylized 3D Model Added.; DatasheetVersion: Jan-1995; PackageVersion: 2000; PackageReference: D16C; Publisher: Altium Limited; PackageDescription: DIP; 16 Leads; Row Spacing 7.62 mm; Pitch 2.54 mm; ComponentLink1Description: Manufacturer Link; ComponentLink1URL: http://www.national.com/
footprint D16C (DIP; 16 Leads; Row Spacing 7.62 mm; Pitch 2.54 mm)
3D model D16C (DIP; 16 Leads; Row Spacing 7.62 mm; Pitch 2.54 mm)
pins: 1 IN1 (in), 2 D1 (out), 3 S1 (in), 4 VEE (power), 5 VR, 6 S2 (in), 7 D2 (out), 8 IN2 (in), 9 IN3 (in), 10 D3 (out), 11 S3 (in), 12 NC, 13 VCC (power), 14 S4 (in), 15 D4 (out), 16 IN4 (in)

## LF13202M
designator U?
Quad SPST JFET Analog Switches; Published: 15-Apr-2002; LatestRevisionDate: 13-Apr-2006; LatestRevisionNote: IPC-7351 Footprint Added.; DatasheetVersion: Jan-1995; PackageVersion: 2000; PackageReference: M16A; Publisher: Altium Limited; PackageDescription: 16-Pin Small Outline Integrated Circuit 1.27 mm Pitch; Code_IPC: SOIC127P600-16; ComponentLink1Description: Manufacturer Link; ComponentLink1URL: http://www.national.com/
footprint M16A_N (SOIC, 16-Leads, Body 9.9x3.9mm, Pitch 1.27mm, IPC Medium Density)
footprint M16A_L (SOIC, 16-Leads, Body 9.9x3.9mm, Pitch 1.27mm, IPC High Density)
footprint M16A_M (SOIC, 16-Leads, Body 9.9x3.9mm, Pitch 1.27mm, IPC Low Density)
3D model M16A (16-Pin Small Outline Integrated Circuit 1.27 mm Pitch)
pins: 1 IN1 (in), 2 D1 (out), 3 S1 (in), 4 VEE (power), 5 VR, 6 S2 (in), 7 D2 (out), 8 IN2 (in), 9 IN3 (in), 10 D3 (out), 11 S3 (in), 12 NC, 13 VCC (power), 14 S4 (in), 15 D4 (out), 16 IN4 (in)

## LF13202N
designator U?
Quad SPST JFET Analog Switches; Published: 15-Apr-2002; LatestRevisionDate: 06-Jun-2005; LatestRevisionNote: Stylized 3D Model Added.; DatasheetVersion: Jan-1995; PackageVersion: 2000; PackageReference: N16A; Publisher: Altium Limited; PackageDescription: DIP; 16 Leads; Row Spacing 7.62 mm; Pitch 2.54 mm; ComponentLink1Description: Manufacturer Link; ComponentLink1URL: http://www.national.com/
footprint N16A (DIP; 16 Leads; Row Spacing 7.62 mm; Pitch 2.54 mm)
3D model N16A (DIP; 16 Leads; Row Spacing 7.62 mm; Pitch 2.54 mm)
pins: 1 IN1 (in), 2 D1 (out), 3 S1 (in), 4 VEE (power), 5 VR, 6 S2 (in), 7 D2 (out), 8 IN2 (in), 9 IN3 (in), 10 D3 (out), 11 S3 (in), 12 NC, 13 VCC (power), 14 S4 (in), 15 D4 (out), 16 IN4 (in)

## LF13331D
designator S?
Quad SPST JFET Analog Switches; Published: 15-Apr-2002; LatestRevisionDate: 06-Jun-2005; LatestRevisionNote: Stylized 3D Model Added.; DatasheetVersion: Jan-1995; PackageVersion: 2000; PackageReference: D16C; Publisher: Altium Limited; PackageDescription: DIP; 16 Leads; Row Spacing 7.62 mm; Pitch 2.54 mm; ComponentLink1Description: Manufacturer Link; ComponentLink1URL: http://www.national.com/
footprint D16C (DIP; 16 Leads; Row Spacing 7.62 mm; Pitch 2.54 mm)
3D model D16C (DIP; 16 Leads; Row Spacing 7.62 mm; Pitch 2.54 mm)
pins: 1 IN1 (in), 2 D1 (out), 3 S1 (in), 4 VR, 5 VEE (power), 6 S2 (in), 7 D2 (out), 8 IN2 (in), 9 IN3 (in), 10 D3 (out), 11 S3 (in), 12 VCC (power), 13 DIS, 14 S4 (in), 15 D4 (out), 16 IN4 (in)

## LF13331M
designator U?
Quad SPST JFET Analog Switches; Published: 15-Apr-2002; LatestRevisionDate: 13-Apr-2006; LatestRevisionNote: IPC-7351 Footprint Added.; DatasheetVersion: Jan-1995; PackageVersion: 2000; PackageReference: M16A; Publisher: Altium Limited; PackageDescription: 16-Pin Small Outline Integrated Circuit 1.27 mm Pitch; Code_IPC: SOIC127P600-16; ComponentLink1Description: Manufacturer Link; ComponentLink1URL: http://www.national.com/
footprint M16A_N (SOIC, 16-Leads, Body 9.9x3.9mm, Pitch 1.27mm, IPC Medium Density)
footprint M16A_L (SOIC, 16-Leads, Body 9.9x3.9mm, Pitch 1.27mm, IPC High Density)
footprint M16A_M (SOIC, 16-Leads, Body 9.9x3.9mm, Pitch 1.27mm, IPC Low Density)
3D model M16A (16-Pin Small Outline Integrated Circuit 1.27 mm Pitch)
pins: 1 IN1 (in), 2 D1 (out), 3 S1 (in), 4 VR, 5 VEE (power), 6 S2 (in), 7 D2 (out), 8 IN2 (in), 9 IN3 (in), 10 D3 (out), 11 S3 (in), 12 VCC (power), 13 DIS, 14 S4 (in), 15 D4 (out), 16 IN4 (in)

## LF13331N
designator U?
Quad SPST JFET Analog Switches; Published: 15-Apr-2002; LatestRevisionDate: 06-Jun-2005; LatestRevisionNote: Stylized 3D Model Added.; DatasheetVersion: Jan-1995; PackageVersion: 2000; PackageReference: N16A; Publisher: Altium Limited; PackageDescription: DIP; 16 Leads; Row Spacing 7.62 mm; Pitch 2.54 mm; ComponentLink1Description: Manufacturer Link; ComponentLink1URL: http://www.national.com/
footprint N16A (DIP; 16 Leads; Row Spacing 7.62 mm; Pitch 2.54 mm)
3D model N16A (DIP; 16 Leads; Row Spacing 7.62 mm; Pitch 2.54 mm)
pins: 1 IN1 (in), 2 D1 (out), 3 S1 (in), 4 VR, 5 VEE (power), 6 S2 (in), 7 D2 (out), 8 IN2 (in), 9 IN3 (in), 10 D3 (out), 11 S3 (in), 12 VCC (power), 13 DIS, 14 S4 (in), 15 D4 (out), 16 IN4 (in)

## LF13332D
designator U?
Quad SPST JFET Analog Switches; Published: 15-Apr-2002; LatestRevisionDate: 06-Jun-2005; LatestRevisionNote: Stylized 3D Model Added.; DatasheetVersion: Jan-1995; PackageVersion: 2000; PackageReference: D16C; Publisher: Altium Limited; PackageDescription: DIP; 16 Leads; Row Spacing 7.62 mm; Pitch 2.54 mm; ComponentLink1Description: Manufacturer Link; ComponentLink1URL: http://www.national.com/
footprint D16C (DIP; 16 Leads; Row Spacing 7.62 mm; Pitch 2.54 mm)
3D model D16C (DIP; 16 Leads; Row Spacing 7.62 mm; Pitch 2.54 mm)
pins: 1 IN1 (in), 2 D1 (out), 3 S1 (in), 4 VR, 5 VEE (power), 6 S2 (in), 7 D2 (out), 8 IN2 (in), 9 IN3 (in), 10 D3 (out), 11 S3 (in), 12 VCC (power), 13 DIS, 14 S4 (in), 15 D4 (out), 16 IN4 (in)

## LF13332M
designator U?
Quad SPST JFET Analog Switches; Published: 15-Apr-2002; LatestRevisionDate: 13-Apr-2006; LatestRevisionNote: IPC-7351 Footprint Added.; DatasheetVersion: Jan-1995; PackageVersion: 2000; PackageReference: M16A; Publisher: Altium Limited; PackageDescription: 16-Pin Small Outline Integrated Circuit 1.27 mm Pitch; Code_IPC: SOIC127P600-16; ComponentLink1Description: Manufacturer Link; ComponentLink1URL: http://www.national.com/
footprint M16A_N (SOIC, 16-Leads, Body 9.9x3.9mm, Pitch 1.27mm, IPC Medium Density)
footprint M16A_L (SOIC, 16-Leads, Body 9.9x3.9mm, Pitch 1.27mm, IPC High Density)
footprint M16A_M (SOIC, 16-Leads, Body 9.9x3.9mm, Pitch 1.27mm, IPC Low Density)
3D model M16A (16-Pin Small Outline Integrated Circuit 1.27 mm Pitch)
pins: 1 IN1 (in), 2 D1 (out), 3 S1 (in), 4 VR, 5 VEE (power), 6 S2 (in), 7 D2 (out), 8 IN2 (in), 9 IN3 (in), 10 D3 (out), 11 S3 (in), 12 VCC (power), 13 DIS, 14 S4 (in), 15 D4 (out), 16 IN4 (in)

## LF13332N
designator U?
Quad SPST JFET Analog Switches; Published: 15-Apr-2002; LatestRevisionDate: 06-Jun-2005; LatestRevisionNote: Stylized 3D Model Added.; DatasheetVersion: Jan-1995; PackageVersion: 2000; PackageReference: N16A; Publisher: Altium Limited; PackageDescription: DIP; 16 Leads; Row Spacing 7.62 mm; Pitch 2.54 mm; ComponentLink1Description: Manufacturer Link; ComponentLink1URL: http://www.national.com/
footprint N16A (DIP; 16 Leads; Row Spacing 7.62 mm; Pitch 2.54 mm)
3D model N16A (DIP; 16 Leads; Row Spacing 7.62 mm; Pitch 2.54 mm)
pins: 1 IN1 (in), 2 D1 (out), 3 S1 (in), 4 VR, 5 VEE (power), 6 S2 (in), 7 D2 (out), 8 IN2 (in), 9 IN3 (in), 10 D3 (out), 11 S3 (in), 12 VCC (power), 13 DIS, 14 S4 (in), 15 D4 (out), 16 IN4 (in)

## LF13333D
designator U?
Quad SPST JFET Analog Switches; Published: 15-Apr-2002; LatestRevisionDate: 06-Jun-2005; LatestRevisionNote: Stylized 3D Model Added.; DatasheetVersion: Jan-1995; PackageVersion: 2000; PackageReference: D16C; Publisher: Altium Limited; PackageDescription: DIP; 16 Leads; Row Spacing 7.62 mm; Pitch 2.54 mm; ComponentLink1Description: Manufacturer Link; ComponentLink1URL: http://www.national.com/
footprint D16C (DIP; 16 Leads; Row Spacing 7.62 mm; Pitch 2.54 mm)
3D model D16C (DIP; 16 Leads; Row Spacing 7.62 mm; Pitch 2.54 mm)
pins: 1 IN1 (in), 2 D1 (out), 3 S1 (in), 4 VR, 5 VEE (power), 6 S2 (in), 7 D2 (out), 8 IN2 (in), 9 IN3 (in), 10 D3 (out), 11 S3 (in), 12 VCC (power), 13 DIS, 14 S4 (in), 15 D4 (out), 16 IN4 (in)

## LF13333M
designator U?
Quad SPST JFET Analog Switches; Published: 15-Apr-2002; LatestRevisionDate: 13-Apr-2006; LatestRevisionNote: IPC-7351 Footprint Added.; DatasheetVersion: Jan-1995; PackageVersion: 2000; PackageReference: M16A; Publisher: Altium Limited; PackageDescription: 16-Pin Small Outline Integrated Circuit 1.27 mm Pitch; Code_IPC: SOIC127P600-16; ComponentLink1Description: Manufacturer Link; ComponentLink1URL: http://www.national.com/
footprint M16A_N (SOIC, 16-Leads, Body 9.9x3.9mm, Pitch 1.27mm, IPC Medium Density)
footprint M16A_L (SOIC, 16-Leads, Body 9.9x3.9mm, Pitch 1.27mm, IPC High Density)
footprint M16A_M (SOIC, 16-Leads, Body 9.9x3.9mm, Pitch 1.27mm, IPC Low Density)
3D model M16A (16-Pin Small Outline Integrated Circuit 1.27 mm Pitch)
pins: 1 IN1 (in), 2 D1 (out), 3 S1 (in), 4 VR, 5 VEE (power), 6 S2 (in), 7 D2 (out), 8 IN2 (in), 9 IN3 (in), 10 D3 (out), 11 S3 (in), 12 VCC (power), 13 DIS, 14 S4 (in), 15 D4 (out), 16 IN4 (in)

## LF13333N
designator U?
Quad SPST JFET Analog Switches; Published: 15-Apr-2002; LatestRevisionDate: 06-Jun-2005; LatestRevisionNote: Stylized 3D Model Added.; DatasheetVersion: Jan-1995; PackageVersion: 2000; PackageReference: N16A; Publisher: Altium Limited; PackageDescription: DIP; 16 Leads; Row Spacing 7.62 mm; Pitch 2.54 mm; ComponentLink1Description: Manufacturer Link; ComponentLink1URL: http://www.national.com/
footprint N16A (DIP; 16 Leads; Row Spacing 7.62 mm; Pitch 2.54 mm)
3D model N16A (DIP; 16 Leads; Row Spacing 7.62 mm; Pitch 2.54 mm)
pins: 1 IN1 (in), 2 D1 (out), 3 S1 (in), 4 VR, 5 VEE (power), 6 S2 (in), 7 D2 (out), 8 IN2 (in), 9 IN3 (in), 10 D3 (out), 11 S3 (in), 12 VCC (power), 13 DIS, 14 S4 (in), 15 D4 (out), 16 IN4 (in)

## MM54HC4016J
designator U?
Quad Analog Switch; Published: 15-Apr-2002; LatestRevisionDate: 06-Jun-2005; LatestRevisionNote: Stylized 3D Model Added.; DatasheetVersion: Aug-1989; PackageVersion: 2000; PackageReference: J14A; Publisher: Altium Limited; PackageDescription: DIP; 14 Leads; Row Spacing 7.62 mm; Pitch 2.54 mm; ComponentLink1Description: Manufacturer Link; ComponentLink1URL: http://www.national.com/
footprint J14A (DIP; 14 Leads; Row Spacing 7.62 mm; Pitch 2.54 mm)
3D model J14A (DIP; 14 Leads; Row Spacing 7.62 mm; Pitch 2.54 mm)
signal-integrity model MM54HC4016J
pins on every part: 7 GND (power) hidden to GND, 14 VDD (power) hidden to VDD
part A pins: 1 IO (io), 2 OI (io), 13 CNTL (in)
part B pins: 3 OI (io), 4 IO (io), 5 CNTL (in)
part C pins: 6 CNTL (in), 8 IO (io), 9 OI (io)
part D pins: 10 OI (io), 11 IO (io), 12 CNTL (in)

## MM74HC4016J
designator U?
Quad Analog Switch; Published: 15-Apr-2002; LatestRevisionDate: 06-Jun-2005; LatestRevisionNote: Stylized 3D Model Added.; DatasheetVersion: Aug-1989; PackageVersion: 2000; PackageReference: J14A; Publisher: Altium Limited; PackageDescription: DIP; 14 Leads; Row Spacing 7.62 mm; Pitch 2.54 mm; ComponentLink1Description: Manufacturer Link; ComponentLink1URL: http://www.national.com/
footprint J14A (DIP; 14 Leads; Row Spacing 7.62 mm; Pitch 2.54 mm)
3D model J14A (DIP; 14 Leads; Row Spacing 7.62 mm; Pitch 2.54 mm)
signal-integrity model MM74HC4016J
pins on every part: 7 GND (power) hidden to GND, 14 VDD (power) hidden to VDD
part A pins: 1 IO (io), 2 OI (io), 13 CNTL (in)
part B pins: 3 OI (io), 4 IO (io), 5 CNTL (in)
part C pins: 6 CNTL (in), 8 IO (io), 9 OI (io)
part D pins: 10 OI (io), 11 IO (io), 12 CNTL (in)

## MM74HC4016N
designator U?
Quad Analog Switch; Published: 15-Apr-2002; LatestRevisionDate: 06-Jun-2005; LatestRevisionNote: Stylized 3D Model Added.; DatasheetVersion: Aug-1989; PackageVersion: 2000; PackageReference: N14A; Publisher: Altium Limited; PackageDescription: DIP; 14 Leads; Row Spacing 7.62 mm; Pitch 2.54 mm; ComponentLink1Description: Manufacturer Link; ComponentLink1URL: http://www.national.com/
footprint N14A (DIP; 14 Leads; Row Spacing 7.62 mm; Pitch 2.54 mm)
3D model N14A (DIP; 14 Leads; Row Spacing 7.62 mm; Pitch 2.54 mm)
signal-integrity model MM74HC4016N
pins on every part: 7 GND (power) hidden to GND, 14 VDD (power) hidden to VDD
part A pins: 1 IO (io), 2 OI (io), 13 CNTL (in)
part B pins: 3 OI (io), 4 IO (io), 5 CNTL (in)
part C pins: 6 CNTL (in), 8 IO (io), 9 OI (io)
part D pins: 10 OI (io), 11 IO (io), 12 CNTL (in)

## NC7LVX384M5
designator U?
1-Bit Low Power Bus Switch; Published: 15-Apr-2002; DatasheetVersion: 1996; PackageVersion: Aug-1999; PackageReference: MA05B; Publisher: Altium Limited; PackageDescription: SOT-23/SC-74A; 5 Leads; Body 3 x 3 mm, inc. leads (LxW max); ComponentLink1Description: Manufacturer Link; ComponentLink1URL: http://www.national.com/
footprint MA05B (SOT-23/SC-74A; 5 Leads; Body 3 x 3 mm, inc. leads (LxW max))
pins: 1 A, 2 ~{BE} (in), 3 GND (power), 4 B, 5 VCC (power)

## NC7LVX384M5X
designator U?
1-Bit Low Power Bus Switch; Published: 15-Apr-2002; DatasheetVersion: 1996; PackageVersion: Aug-1999; PackageReference: MA05B; Publisher: Altium Limited; PackageDescription: SOT-23/SC-74A; 5 Leads; Body 3 x 3 mm, inc. leads (LxW max); ComponentLink1Description: Manufacturer Link; ComponentLink1URL: http://www.national.com/
footprint MA05B (SOT-23/SC-74A; 5 Leads; Body 3 x 3 mm, inc. leads (LxW max))
pins: 1 A, 2 ~{BE} (in), 3 GND (power), 4 B, 5 VCC (power)